# Altium footprint library Symbol.PcbLib: 206 footprints (part 4 of 15)
Each footprint in its own frame and in the unit in brackets; x right, y up, seen from the top. Pads: shape width x height; smd on the part's side, far side on the other; paste and mask are expansions set on the pad; w line width, h text height; cw(c..) or ccw(c..) is an arc to the next point about the centre after c.
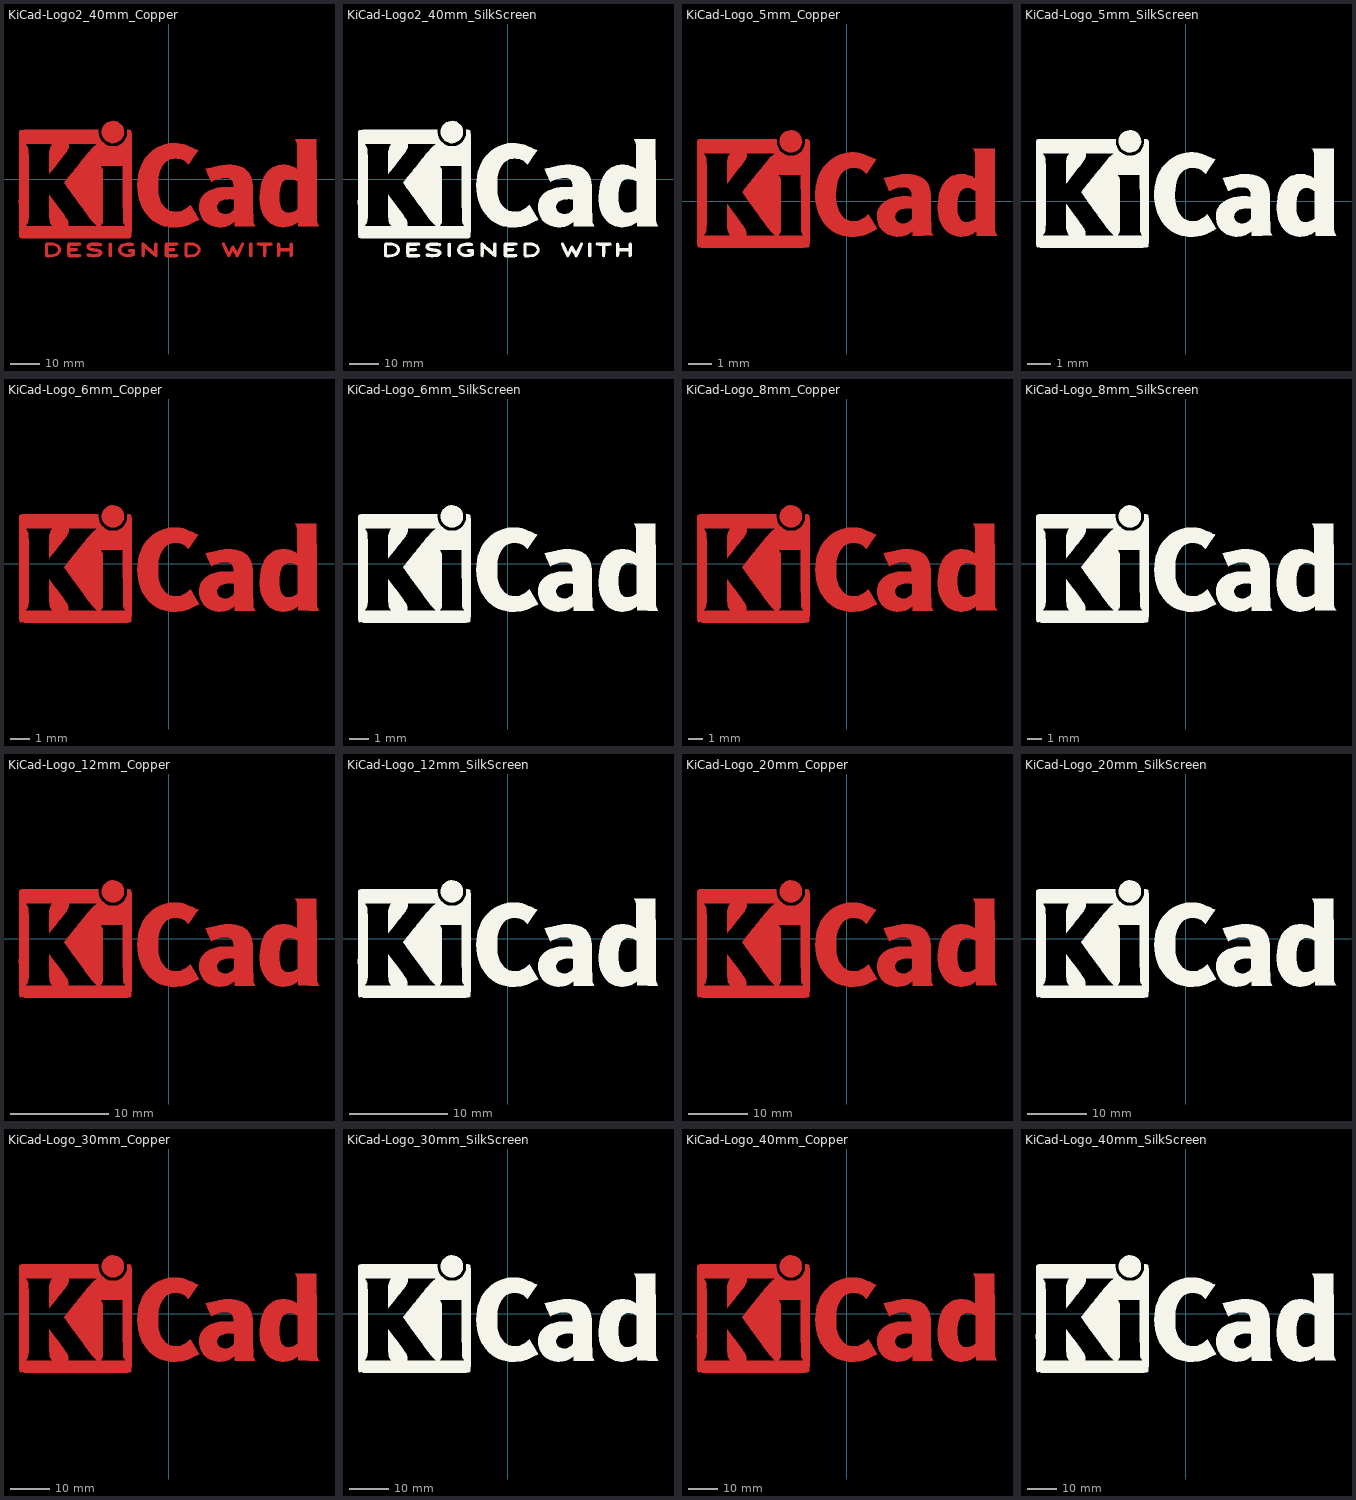
[diagram p3: the footprints below, top view; thin cyan lines are the x and y axes]

## KiCad-Logo2_40mm_Copper [mm]
F.Cu:
  region: 27.966,-21.545 28.124,-21.644 28.302,-21.788 28.302,-23.935 28.301,-24.563 28.299,-25.057 28.293,-25.436 28.284,-25.717 28.269,-25.917 28.249,-26.054 28.221,-26.146 28.184,-26.209 28.158,-26.24 27.948,-26.377 27.709,-26.371 27.5,-26.255 27.322,-26.11 27.322,-21.788 27.5,-21.644 27.672,-21.539 27.812,-21.5
  region: -19.521,-21.65 -19.477,-21.701 -19.443,-21.766 -19.417,-21.863 -19.398,-22.01 -19.385,-22.225 -19.377,-22.523 -19.372,-22.924 -19.371,-23.444 -19.37,-23.949 -19.371,-24.576 -19.373,-25.069 -19.378,-25.447 -19.387,-25.726 -19.401,-25.924 -19.421,-26.059 -19.449,-26.148 -19.486,-26.209 -19.521,-26.248 -19.741,-26.379 -19.976,-26.368 -20.186,-26.224 -20.235,-26.168 -20.272,-26.103 -20.301,-26.012 -20.321,-25.875 -20.335,-25.675 -20.344,-25.395 -20.348,-25.016 -20.35,-24.521 -20.35,-23.96 -20.35,-21.87 -20.165,-21.685 -19.937,-21.529 -19.716,-21.523
  region: -18.076,19.651 -17.392,19.413 -16.756,19.04 -16.187,18.531 -15.708,17.886 -15.493,17.48 -15.306,16.911 -15.216,16.254 -15.226,15.579 -15.337,14.968 -15.641,14.22 -16.081,13.572 -16.635,13.035 -17.282,12.624 -17.998,12.349 -18.761,12.225 -19.549,12.263 -19.938,12.345 -20.695,12.64 -21.367,13.089 -21.938,13.679 -22.393,14.397 -22.431,14.475 -22.564,14.769 -22.647,15.017 -22.693,15.278 -22.711,15.613 -22.714,15.977 -22.709,16.415 -22.686,16.732 -22.634,16.987 -22.541,17.243 -22.426,17.496 -21.998,18.213 -21.47,18.793 -20.864,19.237 -20.201,19.545 -19.501,19.716 -18.786,19.751
  region: 33.136,-21.5 33.662,-21.503 34.07,-21.508 34.376,-21.517 34.599,-21.53 34.753,-21.549 34.856,-21.574 34.924,-21.607 34.957,-21.631 35.128,-21.849 35.149,-22.074 35.043,-22.279 34.974,-22.361 34.9,-22.417 34.792,-22.452 34.622,-22.47 34.363,-22.478 33.986,-22.479 33.911,-22.479 32.937,-22.479 32.937,-24.288 32.936,-24.858 32.934,-25.297 32.927,-25.624 32.915,-25.857 32.896,-26.017 32.869,-26.123 32.833,-26.194 32.786,-26.248 32.566,-26.38 32.337,-26.37 32.129,-26.219 32.113,-26.2 32.064,-26.129 32.026,-26.046 31.998,-25.931 31.979,-25.764 31.967,-25.524 31.96,-25.192 31.958,-24.747 31.957,-24.24 31.957,-22.479 31.027,-22.479 30.628,-22.477 30.351,-22.466 30.17,-22.444 30.055,-22.407 29.981,-22.351 29.972,-22.342 29.862,-22.12 29.872,-21.869 29.998,-21.65 30.046,-21.608 30.109,-21.574 30.202,-21.548 30.343,-21.529 30.548,-21.516 30.834,-21.507 31.217,-21.502 31.714,-21.5 32.343,-21.5 32.477,-21.5
  region: 41.587,-21.536 41.797,-21.685 41.982,-21.87 41.982,-23.936 41.981,-24.549 41.979,-25.03 41.973,-25.397 41.964,-25.668 41.948,-25.861 41.926,-25.995 41.896,-26.088 41.856,-26.158 41.825,-26.2 41.62,-26.364 41.385,-26.382 41.169,-26.281 41.098,-26.222 41.051,-26.143 41.022,-26.016 41.007,-25.812 41.002,-25.503 41.002,-25.264 41.002,-24.364 37.685,-24.364 37.685,-25.183 37.682,-25.557 37.668,-25.814 37.639,-25.988 37.589,-26.112 37.529,-26.2 37.323,-26.364 37.09,-26.383 36.866,-26.267 36.805,-26.206 36.762,-26.125 36.734,-25.999 36.717,-25.803 36.708,-25.511 36.704,-25.099 36.704,-25.004 36.7,-24.227 36.699,-23.587 36.699,-23.069 36.703,-22.66 36.709,-22.345 36.72,-22.11 36.736,-21.942 36.758,-21.825 36.785,-21.746 36.819,-21.692 36.856,-21.65 37.069,-21.518 37.291,-21.536 37.5,-21.685 37.585,-21.78 37.639,-21.886 37.669,-22.037 37.683,-22.267 37.685,-22.613 37.685,-22.627 37.685,-23.384 41.002,-23.384 41.002,-22.592 41.005,-22.228 41.019,-21.982 41.048,-21.822 41.097,-21.716 41.153,-21.65 41.365,-21.518
  region: 6.799,-21.501 7.66,-21.53 8.392,-21.618 9.008,-21.771 9.519,-21.994 9.938,-22.291 10.277,-22.669 10.547,-23.133 10.552,-23.144 10.713,-23.559 10.771,-23.926 10.724,-24.296 10.573,-24.718 10.545,-24.782 10.35,-25.158 10.131,-25.448 9.848,-25.695 9.462,-25.94 9.44,-25.953 9.104,-26.114 8.724,-26.235 8.276,-26.319 7.735,-26.37 7.078,-26.393 6.845,-26.395 5.739,-26.399 5.583,-26.2 5.537,-26.135 5.5,-26.059 5.473,-25.953 5.454,-25.8 5.441,-25.581 5.436,-25.419 5.433,-25.278 5.428,-24.873 5.427,-24.347 5.427,-23.936 5.427,-21.87 5.612,-21.685 5.694,-21.61 5.783,-21.558 5.907,-21.526 6.094,-21.509 6.374,-21.502 6.775,-21.501 hole: 6.482,-22.479 6.482,-25.419 7.109,-25.419 7.476,-25.408 7.852,-25.38 8.161,-25.34 8.18,-25.337 8.729,-25.189 9.154,-24.968 9.47,-24.663 9.69,-24.263 9.728,-24.157 9.766,-23.992 9.75,-23.829 9.671,-23.612 9.623,-23.505 9.467,-23.222 9.28,-23.023 9.073,-22.885 8.659,-22.704 8.13,-22.574 7.513,-22.499 7.066,-22.482
  region: -40.87,-21.5 -40.606,-21.502 -39.834,-21.521 -39.187,-21.576 -38.643,-21.674 -38.181,-21.821 -37.779,-22.022 -37.413,-22.284 -37.283,-22.397 -37.067,-22.663 -36.871,-23.024 -36.721,-23.424 -36.639,-23.807 -36.63,-23.949 -36.684,-24.342 -36.827,-24.771 -37.035,-25.177 -37.281,-25.501 -37.321,-25.54 -37.66,-25.814 -38.031,-26.029 -38.455,-26.188 -38.954,-26.299 -39.55,-26.367 -40.264,-26.396 -40.59,-26.399 -41.006,-26.397 -41.298,-26.388 -41.494,-26.37 -41.622,-26.338 -41.709,-26.29 -41.755,-26.248 -41.799,-26.197 -41.834,-26.132 -41.86,-26.035 -41.879,-25.888 -41.892,-25.674 -41.9,-25.375 -41.904,-24.974 -41.906,-24.454 -41.906,-23.949 -41.908,-23.275 -41.908,-22.737 -41.901,-22.479 -41.897,-22.319 -41.869,-22.007 -41.814,-21.785 -41.726,-21.638 -41.595,-21.551 -41.414,-21.509 -41.175,-21.497 hole: -40.418,-22.479 -40.926,-22.479 -40.926,-25.419 -40.305,-25.418 -39.93,-25.408 -39.539,-25.38 -39.212,-25.341 -39.202,-25.34 -38.673,-25.212 -38.263,-25.013 -37.952,-24.73 -37.753,-24.423 -37.631,-24.083 -37.641,-23.764 -37.783,-23.422 -38.06,-23.067 -38.444,-22.805 -38.943,-22.63 -39.276,-22.568 -39.655,-22.524 -40.056,-22.492 -40.397,-22.479
  region: -8.68,-21.529 -8.523,-21.621 -8.317,-21.772 -8.052,-21.989 -7.718,-22.278 -7.303,-22.648 -6.797,-23.104 -6.218,-23.629 -5.012,-24.723 -4.974,-23.255 -4.961,-22.75 -4.948,-22.374 -4.932,-22.105 -4.911,-21.921 -4.882,-21.802 -4.842,-21.724 -4.788,-21.667 -4.759,-21.643 -4.528,-21.517 -4.309,-21.535 -4.135,-21.644 -3.957,-21.788 -3.935,-23.89 -3.929,-24.509 -3.926,-24.995 -3.927,-25.366 -3.933,-25.641 -3.945,-25.838 -3.965,-25.974 -3.993,-26.069 -4.031,-26.139 -4.072,-26.196 -4.162,-26.301 -4.252,-26.371 -4.354,-26.397 -4.48,-26.374 -4.643,-26.292 -4.856,-26.145 -5.13,-25.925 -5.478,-25.625 -5.914,-25.237 -6.407,-24.791 -8.178,-23.185 -8.215,-24.648 -8.229,-25.152 -8.242,-25.527 -8.258,-25.796 -8.279,-25.978 -8.308,-26.097 -8.349,-26.175 -8.403,-26.232 -8.431,-26.255 -8.678,-26.382 -8.911,-26.363 -9.114,-26.2 -9.161,-26.135 -9.197,-26.058 -9.224,-25.952 -9.244,-25.799 -9.257,-25.579 -9.265,-25.275 -9.269,-24.868 -9.27,-24.34 -9.271,-23.949 -9.27,-23.338 -9.268,-22.859 -9.262,-22.494 -9.253,-22.225 -9.237,-22.033 -9.215,-21.9 -9.184,-21.808 -9.144,-21.738 -9.114,-21.698 -9.039,-21.604 -8.969,-21.533 -8.892,-21.492 -8.8,-21.488
  region: -13.02,-21.536 -12.562,-21.613 -12.211,-21.733 -11.982,-21.89 -11.92,-21.979 -11.857,-22.188 -11.899,-22.376 -12.034,-22.555 -12.243,-22.639 -12.546,-22.632 -12.781,-22.587 -13.302,-22.5 -13.835,-22.492 -14.432,-22.562 -14.596,-22.592 -15.151,-22.748 -15.585,-22.981 -15.893,-23.286 -16.071,-23.659 -16.108,-23.852 -16.084,-24.243 -15.928,-24.59 -15.655,-24.884 -15.279,-25.12 -14.814,-25.29 -14.273,-25.389 -13.673,-25.408 -13.025,-25.342 -12.989,-25.336 -12.731,-25.288 -12.589,-25.241 -12.527,-25.173 -12.512,-25.058 -12.512,-24.997 -12.512,-24.741 -12.969,-24.741 -13.372,-24.713 -13.648,-24.625 -13.808,-24.468 -13.866,-24.236 -13.867,-24.206 -13.833,-24.007 -13.717,-23.865 -13.5,-23.772 -13.164,-23.717 -12.84,-23.697 -12.368,-23.685 -12.026,-23.703 -11.792,-23.768 -11.647,-23.898 -11.569,-24.113 -11.537,-24.429 -11.532,-24.845 -11.541,-25.308 -11.569,-25.624 -11.617,-25.792 -11.626,-25.805 -11.886,-26.016 -12.267,-26.183 -12.745,-26.302 -13.295,-26.37 -13.895,-26.384 -14.519,-26.34 -14.886,-26.286 -15.461,-26.123 -15.996,-25.857 -16.444,-25.511 -16.512,-25.442 -16.733,-25.151 -16.933,-24.791 -17.088,-24.414 -17.174,-24.071 -17.185,-23.94 -17.14,-23.665 -17.022,-23.323 -16.854,-22.964 -16.657,-22.635 -16.483,-22.416 -16.076,-22.09 -15.549,-21.83 -14.923,-21.643 -14.215,-21.534 -13.567,-21.507
  region: 1.538,-21.501 2.048,-21.507 2.438,-21.521 2.726,-21.547 2.926,-21.588 3.054,-21.647 3.126,-21.727 3.158,-21.833 3.166,-21.966 3.166,-21.982 3.159,-22.133 3.127,-22.25 3.053,-22.338 2.92,-22.4 2.71,-22.442 2.405,-22.469 1.989,-22.485 1.444,-22.494 1.277,-22.497 -0.339,-22.517 -0.362,-22.95 -0.384,-23.384 0.738,-23.384 1.177,-23.385 1.49,-23.392 1.703,-23.407 1.841,-23.434 1.93,-23.474 1.995,-23.532 2.112,-23.757 2.108,-23.999 1.985,-24.206 1.961,-24.227 1.874,-24.282 1.756,-24.32 1.579,-24.344 1.318,-24.358 0.946,-24.363 0.708,-24.364 -0.377,-24.364 -0.377,-25.419 1.27,-25.419 1.813,-25.42 2.226,-25.424 2.528,-25.432 2.739,-25.446 2.879,-25.468 2.968,-25.5 3.026,-25.541 3.041,-25.557 3.149,-25.767 3.157,-26.007 3.068,-26.215 2.998,-26.281 2.925,-26.318 2.812,-26.346 2.641,-26.368 2.395,-26.382 2.055,-26.392 1.603,-26.397 1.022,-26.399 0.891,-26.399 0.3,-26.398 -0.159,-26.396 -0.504,-26.391 -0.753,-26.381 -0.927,-26.365 -1.042,-26.341 -1.118,-26.308 -1.173,-26.265 -1.203,-26.234 -1.248,-26.179 -1.284,-26.11 -1.311,-26.011 -1.33,-25.863 -1.343,-25.648 -1.351,-25.348 -1.355,-24.946 -1.356,-24.423 -1.357,-23.983 -1.356,-23.366 -1.354,-22.882 -1.349,-22.512 -1.339,-22.239 -1.324,-22.043 -1.302,-21.907 -1.273,-21.813 -1.234,-21.743 -1.2,-21.698 -1.044,-21.5 0.893,-21.5
  region: -31.465,-21.5 -31.002,-21.503 -30.652,-21.508 -30.397,-21.519 -30.219,-21.535 -30.099,-21.559 -30.018,-21.591 -29.958,-21.634 -29.936,-21.653 -29.804,-21.861 -29.781,-22.099 -29.868,-22.31 -29.908,-22.353 -29.973,-22.395 -30.077,-22.427 -30.241,-22.451 -30.483,-22.468 -30.823,-22.481 -31.28,-22.491 -31.698,-22.497 -33.352,-22.517 -33.374,-22.95 -33.397,-23.384 -32.274,-23.384 -31.787,-23.388 -31.43,-23.406 -31.184,-23.444 -31.028,-23.511 -30.942,-23.613 -30.907,-23.759 -30.902,-23.894 -30.919,-24.06 -30.981,-24.182 -31.109,-24.267 -31.321,-24.322 -31.636,-24.351 -32.074,-24.363 -32.313,-24.364 -33.389,-24.364 -33.389,-25.419 -31.731,-25.419 -31.188,-25.42 -30.775,-25.423 -30.472,-25.431 -30.259,-25.444 -30.115,-25.466 -30.021,-25.497 -29.955,-25.539 -29.922,-25.57 -29.808,-25.749 -29.772,-25.909 -29.824,-26.104 -29.922,-26.248 -29.975,-26.293 -30.042,-26.329 -30.144,-26.355 -30.296,-26.374 -30.519,-26.386 -30.83,-26.394 -31.247,-26.397 -31.789,-26.399 -32.07,-26.399 -32.672,-26.398 -33.142,-26.396 -33.497,-26.39 -33.756,-26.38 -33.938,-26.364 -34.059,-26.341 -34.139,-26.31 -34.196,-26.269 -34.218,-26.248 -34.262,-26.197 -34.297,-26.132 -34.323,-26.034 -34.342,-25.887 -34.355,-25.672 -34.363,-25.372 -34.367,-24.97 -34.369,-24.448 -34.369,-23.962 -34.369,-23.34 -34.367,-22.851 -34.363,-22.477 -34.355,-22.201 -34.341,-22.006 -34.321,-21.873 -34.293,-21.785 -34.255,-21.725 -34.207,-21.675 -34.195,-21.663 -34.137,-21.614 -34.07,-21.575 -33.974,-21.547 -33.833,-21.526 -33.626,-21.513 -33.335,-21.505 -32.941,-21.501 -32.426,-21.5 -32.061,-21.5
  region: 25.001,-21.513 25.132,-21.559 25.137,-21.562 25.315,-21.697 25.413,-21.837 25.432,-21.902 25.431,-21.989 25.404,-22.113 25.345,-22.289 25.249,-22.532 25.108,-22.859 24.918,-23.284 24.673,-23.823 24.538,-24.118 24.293,-24.644 24.064,-25.127 23.859,-25.551 23.686,-25.897 23.554,-26.148 23.472,-26.285 23.456,-26.304 23.249,-26.388 23.015,-26.377 22.827,-26.275 22.82,-26.267 22.745,-26.154 22.62,-25.933 22.459,-25.634 22.279,-25.285 22.214,-25.156 21.726,-24.177 21.193,-25.241 21.003,-25.608 20.827,-25.927 20.678,-26.172 20.573,-26.32 20.537,-26.351 20.258,-26.394 20.029,-26.304 19.961,-26.209 19.844,-25.997 19.687,-25.689 19.5,-25.307 19.293,-24.87 19.074,-24.4 18.853,-23.918 18.64,-23.444 18.445,-23 18.276,-22.606 18.144,-22.283 18.059,-22.053 18.028,-21.935 18.029,-21.931 18.102,-21.782 18.25,-21.631 18.258,-21.624 18.44,-21.522 18.607,-21.523 18.67,-21.542 18.747,-21.584 18.828,-21.666 18.924,-21.806 19.044,-22.02 19.198,-22.325 19.396,-22.739 19.574,-23.121 19.779,-23.564 19.963,-23.962 20.116,-24.295 20.229,-24.541 20.291,-24.681 20.3,-24.703 20.341,-24.667 20.436,-24.518 20.571,-24.276 20.734,-23.965 20.799,-23.836 21.019,-23.402 21.189,-23.086 21.322,-22.869 21.433,-22.734 21.535,-22.661 21.643,-22.633 21.713,-22.63 21.837,-22.641 21.945,-22.686 22.053,-22.785 22.175,-22.955 22.325,-23.215 22.518,-23.585 22.625,-23.795 22.798,-24.13 22.948,-24.408 23.064,-24.605 23.131,-24.698 23.14,-24.702 23.183,-24.629 23.279,-24.439 23.419,-24.151 23.594,-23.787 23.792,-23.365 23.89,-23.155 24.144,-22.615 24.349,-22.199 24.515,-21.893 24.652,-21.686 24.772,-21.562 24.885,-21.509
  region: -24.648,-21.508 -24.148,-21.543 -23.684,-21.598 -23.281,-21.67 -22.967,-21.757 -22.77,-21.858 -22.739,-21.888 -22.634,-22.119 -22.666,-22.356 -22.83,-22.559 -22.837,-22.565 -22.934,-22.627 -23.034,-22.66 -23.174,-22.664 -23.39,-22.64 -23.716,-22.588 -23.742,-22.584 -24.227,-22.524 -24.751,-22.495 -25.277,-22.495 -25.767,-22.522 -26.186,-22.577 -26.495,-22.658 -26.515,-22.666 -26.74,-22.792 -26.819,-22.919 -26.757,-23.044 -26.56,-23.164 -26.232,-23.274 -25.778,-23.371 -25.475,-23.418 -24.847,-23.508 -24.346,-23.59 -23.954,-23.672 -23.647,-23.76 -23.405,-23.862 -23.207,-23.985 -23.03,-24.135 -22.889,-24.283 -22.721,-24.489 -22.638,-24.666 -22.612,-24.884 -22.611,-24.964 -22.631,-25.229 -22.708,-25.427 -22.843,-25.602 -23.116,-25.869 -23.42,-26.074 -23.779,-26.221 -24.214,-26.318 -24.748,-26.371 -25.405,-26.388 -25.513,-26.388 -25.951,-26.378 -26.385,-26.358 -26.768,-26.329 -27.053,-26.294 -27.076,-26.29 -27.359,-26.223 -27.599,-26.138 -27.735,-26.06 -27.862,-25.856 -27.871,-25.618 -27.762,-25.406 -27.737,-25.382 -27.636,-25.311 -27.51,-25.28 -27.315,-25.285 -27.078,-25.312 -26.813,-25.337 -26.441,-25.357 -26.008,-25.372 -25.556,-25.379 -25.438,-25.38 -24.985,-25.378 -24.653,-25.369 -24.414,-25.35 -24.237,-25.318 -24.095,-25.27 -24.01,-25.23 -23.822,-25.119 -23.702,-25.019 -23.685,-24.99 -23.722,-24.873 -23.897,-24.759 -24.199,-24.654 -24.615,-24.563 -24.738,-24.542 -25.378,-24.442 -25.889,-24.358 -26.291,-24.284 -26.602,-24.215 -26.844,-24.143 -27.035,-24.064 -27.196,-23.971 -27.345,-23.858 -27.503,-23.718 -27.557,-23.669 -27.743,-23.487 -27.842,-23.342 -27.881,-23.176 -27.887,-22.968 -27.818,-22.559 -27.613,-22.211 -27.271,-21.926 -26.795,-21.705 -26.455,-21.606 -26.086,-21.542 -25.644,-21.505 -25.155,-21.495
  region: 2.917,12.197 3.899,12.09 4.85,11.898 5.809,11.61 6.815,11.218 7.907,10.711 8.103,10.613 8.554,10.39 8.98,10.19 9.338,10.031 9.586,9.933 9.624,9.92 9.989,9.811 8.354,7.432 7.954,6.85 7.588,6.319 7.27,5.856 7.01,5.479 6.822,5.207 6.718,5.057 6.701,5.033 6.632,5.083 6.463,5.232 6.223,5.454 6.091,5.58 5.343,6.175 4.502,6.627 3.778,6.875 3.343,6.953 2.799,7 2.209,7.016 1.638,7 1.148,6.951 0.953,6.914 0.074,6.611 -0.719,6.149 -1.424,5.528 -2.041,4.75 -2.569,3.815 -3.008,2.723 -3.356,1.477 -3.564,0.41 -3.618,-0.061 -3.655,-0.67 -3.675,-1.372 -3.678,-2.125 -3.666,-2.883 -3.637,-3.605 -3.593,-4.245 -3.534,-4.76 -3.521,-4.839 -3.239,-6.12 -2.855,-7.253 -2.366,-8.244 -1.771,-9.098 -1.348,-9.559 -0.588,-10.186 0.245,-10.651 1.138,-10.951 2.076,-11.083 3.045,-11.046 4.031,-10.837 4.614,-10.632 5.422,-10.221 6.253,-9.633 6.719,-9.235 6.981,-9.004 7.187,-8.835 7.304,-8.754 7.318,-8.751 7.37,-8.835 7.506,-9.054 7.713,-9.392 7.979,-9.829 8.295,-10.346 8.647,-10.924 8.843,-11.246 10.342,-13.707 8.471,-14.632 7.795,-14.964 7.247,-15.226 6.794,-15.43 6.402,-15.591 6.039,-15.72 5.67,-15.831 5.262,-15.937 4.871,-16.03 4.523,-16.102 4.159,-16.156 3.744,-16.196 3.239,-16.224 2.609,-16.244 2.185,-16.252 1.579,-16.258 0.999,-16.255 0.481,-16.245 0.066,-16.227 -0.209,-16.202 -0.226,-16.2 -1.656,-15.891 -2.999,-15.421 -4.254,-14.793 -5.421,-14.005 -6.499,-13.058 -7.489,-11.953 -8.206,-10.97 -8.969,-9.684 -9.585,-8.326 -10.059,-6.885 -10.392,-5.35 -10.588,-3.711 -10.65,-2.046 -10.599,-0.435 -10.439,1.051 -10.166,2.437 -9.774,3.749 -9.257,5.012 -9.196,5.142 -8.516,6.365 -7.682,7.529 -6.716,8.609 -5.643,9.582 -4.485,10.424 -3.407,11.041 -2.317,11.524 -1.225,11.875 -0.089,12.101 1.135,12.213 1.866,12.23
  region: 118 vertices and 1 holes, not listed, extent 30.875,-16.282 50.9,13.549
  region: 125 vertices and 1 holes, not listed, extent 10.297,-16.263 29.224,4.904
  region: 197 vertices and 2 holes, not listed, extent -50.801,-20.027 -12.573,16.752

## KiCad-Logo2_40mm_SilkScreen [mm]
F.SilkS:
  drawing of 17 lines, arcs and shapes, not listed

## KiCad-Logo_5mm_Copper [mm]
F.Cu:
  region: -2.273,2.973 -2.177,2.949 -2.09,2.906 -2.015,2.847 -1.954,2.772 -1.909,2.683 -1.883,2.586 -1.877,2.489 -1.892,2.395 -1.926,2.307 -1.977,2.228 -2.042,2.16 -2.121,2.106 -2.212,2.068 -2.263,2.056 -2.308,2.048 -2.342,2.045 -2.375,2.047 -2.415,2.054 -2.449,2.061 -2.542,2.092 -2.626,2.143 -2.698,2.213 -2.756,2.298 -2.77,2.326 -2.787,2.362 -2.797,2.392 -2.802,2.425 -2.805,2.466 -2.805,2.512 -2.801,2.596 -2.787,2.665 -2.762,2.726 -2.723,2.784 -2.684,2.829 -2.612,2.895 -2.537,2.94 -2.455,2.967 -2.377,2.977
  region: 0.328,2.051 0.489,2.03 0.653,1.99 0.822,1.93 1,1.851 1.011,1.845 1.069,1.817 1.121,1.793 1.162,1.775 1.19,1.764 1.2,1.761 1.219,1.756 1.224,1.752 1.218,1.741 1.202,1.715 1.177,1.676 1.145,1.626 1.107,1.569 1.066,1.507 1.023,1.442 0.98,1.379 0.939,1.319 0.902,1.265 0.871,1.22 0.847,1.186 0.832,1.167 0.83,1.165 0.82,1.17 0.798,1.187 0.767,1.214 0.752,1.228 0.655,1.303 0.548,1.359 0.433,1.394 0.31,1.408 0.241,1.407 0.119,1.39 0.01,1.354 -0.087,1.299 -0.174,1.225 -0.249,1.131 -0.314,1.018 -0.351,0.931 -0.395,0.796 -0.428,0.648 -0.448,0.493 -0.458,0.333 -0.456,0.173 -0.443,0.016 -0.419,-0.133 -0.384,-0.271 -0.338,-0.395 -0.322,-0.429 -0.253,-0.543 -0.173,-0.64 -0.081,-0.718 0.02,-0.777 0.13,-0.816 0.247,-0.834 0.289,-0.835 0.41,-0.824 0.531,-0.791 0.649,-0.737 0.762,-0.663 0.854,-0.585 0.9,-0.54 1.081,-0.837 1.127,-0.911 1.168,-0.98 1.204,-1.039 1.233,-1.088 1.254,-1.124 1.265,-1.144 1.266,-1.147 1.258,-1.157 1.233,-1.174 1.193,-1.197 1.142,-1.225 1.084,-1.255 1.021,-1.287 0.958,-1.318 0.896,-1.346 0.839,-1.371 0.791,-1.391 0.768,-1.399 0.634,-1.437 0.496,-1.462 0.349,-1.475 0.222,-1.477 0.154,-1.476 0.088,-1.474 0.031,-1.471 -0.013,-1.468 -0.027,-1.466 -0.166,-1.438 -0.307,-1.392 -0.445,-1.334 -0.572,-1.264 -0.649,-1.211 -0.777,-1.103 -0.895,-0.977 -1.002,-0.835 -1.095,-0.681 -1.173,-0.518 -1.217,-0.401 -1.267,-0.217 -1.301,-0.023 -1.318,0.179 -1.318,0.382 -1.301,0.584 -1.268,0.781 -1.217,0.967 -1.214,0.978 -1.151,1.14 -1.074,1.288 -0.981,1.426 -0.868,1.558 -0.825,1.604 -0.688,1.728 -0.549,1.83 -0.403,1.912 -0.249,1.975 -0.084,2.02 0.011,2.038 0.17,2.054
  region: 6.187,0.528 6.187,0.293 6.187,0.08 6.187,-0.112 6.187,-0.285 6.187,-0.441 6.188,-0.579 6.188,-0.701 6.189,-0.808 6.19,-0.901 6.192,-0.982 6.194,-1.051 6.196,-1.11 6.198,-1.159 6.202,-1.2 6.205,-1.234 6.21,-1.262 6.214,-1.285 6.22,-1.304 6.226,-1.321 6.233,-1.335 6.24,-1.349 6.249,-1.364 6.254,-1.373 6.288,-1.434 5.43,-1.434 5.43,-1.338 5.429,-1.294 5.427,-1.261 5.424,-1.243 5.423,-1.242 5.412,-1.249 5.389,-1.267 5.366,-1.286 5.312,-1.327 5.242,-1.368 5.165,-1.405 5.088,-1.435 5.057,-1.445 4.989,-1.46 4.906,-1.47 4.816,-1.475 4.728,-1.474 4.649,-1.469 4.612,-1.463 4.473,-1.425 4.346,-1.367 4.23,-1.29 4.127,-1.195 4.036,-1.081 3.969,-0.97 3.914,-0.854 3.872,-0.734 3.842,-0.608 3.823,-0.472 3.815,-0.32 3.814,-0.243 3.816,-0.186 3.822,-0.03 3.844,0.166 3.88,0.345 3.93,0.506 3.994,0.65 4.071,0.777 4.163,0.886 4.268,0.977 4.314,1.008 4.415,1.064 4.518,1.104 4.628,1.128 4.749,1.138 4.842,1.137 4.971,1.126 5.084,1.104 5.183,1.07 5.271,1.024 5.32,0.99 5.349,0.968 5.371,0.953 5.379,0.948 5.381,0.959 5.382,0.99 5.383,1.037 5.384,1.1 5.384,1.173 5.384,1.256 5.384,1.344 5.384,1.436 5.383,1.528 5.382,1.618 5.381,1.704 5.38,1.781 5.379,1.848 5.377,1.902 5.375,1.94 5.375,1.947 5.367,2.018 5.356,2.073 5.338,2.12 5.312,2.166 5.305,2.176 5.281,2.213 6.186,2.213 hole: 5.07,0.553 4.988,0.549 4.915,0.53 4.883,0.515 4.826,0.472 4.777,0.415 4.735,0.342 4.701,0.252 4.672,0.141 4.671,0.135 4.66,0.073 4.653,-0.005 4.648,-0.093 4.645,-0.186 4.645,-0.279 4.648,-0.367 4.654,-0.444 4.662,-0.505 4.665,-0.517 4.697,-0.625 4.738,-0.712 4.79,-0.779 4.853,-0.826 4.926,-0.853 5.011,-0.862 5.107,-0.851 5.17,-0.835 5.219,-0.817 5.274,-0.791 5.314,-0.767 5.385,-0.721 5.385,0.429 5.317,0.473 5.239,0.514 5.155,0.541
  region: 139 vertices and 1 holes, not listed, extent 1.272,-1.475 3.612,1.14
  region: 172 vertices and 2 holes, not listed, extent -6.277,-1.942 -1.558,2.608

## KiCad-Logo_5mm_SilkScreen [mm]
F.SilkS:
  drawing of 5 lines, arcs and shapes, not listed

## KiCad-Logo_6mm_Copper [mm]
F.Cu:
  region: -2.726,2.964 -2.623,2.928 -2.527,2.871 -2.441,2.795 -2.369,2.697 -2.336,2.636 -2.308,2.55 -2.295,2.451 -2.296,2.35 -2.313,2.257 -2.359,2.145 -2.425,2.047 -2.509,1.966 -2.606,1.904 -2.714,1.862 -2.829,1.844 -2.948,1.849 -3.007,1.862 -3.121,1.906 -3.222,1.974 -3.309,2.063 -3.377,2.171 -3.383,2.183 -3.403,2.227 -3.415,2.265 -3.422,2.304 -3.425,2.355 -3.426,2.41 -3.425,2.476 -3.421,2.523 -3.413,2.562 -3.399,2.6 -3.382,2.639 -3.318,2.747 -3.238,2.834 -3.147,2.901 -3.047,2.948 -2.941,2.973 -2.833,2.979
  region: 0.44,1.84 0.588,1.823 0.731,1.794 0.876,1.751 1.028,1.692 1.192,1.615 1.222,1.6 1.29,1.567 1.354,1.537 1.408,1.513 1.446,1.498 1.451,1.496 1.506,1.48 1.26,1.121 1.2,1.033 1.144,0.953 1.096,0.883 1.057,0.826 1.029,0.785 1.013,0.763 1.011,0.759 1,0.767 0.975,0.789 0.939,0.823 0.919,0.841 0.806,0.931 0.679,0.999 0.57,1.037 0.504,1.049 0.422,1.056 0.333,1.058 0.247,1.056 0.173,1.048 0.144,1.043 0.011,0.997 -0.108,0.927 -0.215,0.834 -0.308,0.716 -0.387,0.575 -0.454,0.411 -0.506,0.223 -0.537,0.062 -0.546,-0.009 -0.551,-0.101 -0.554,-0.207 -0.555,-0.32 -0.553,-0.435 -0.548,-0.544 -0.542,-0.64 -0.533,-0.718 -0.531,-0.73 -0.489,-0.923 -0.431,-1.094 -0.357,-1.243 -0.267,-1.372 -0.203,-1.442 -0.089,-1.536 0.037,-1.606 0.172,-1.651 0.313,-1.671 0.459,-1.666 0.608,-1.634 0.696,-1.603 0.818,-1.542 0.943,-1.453 1.013,-1.393 1.053,-1.358 1.084,-1.332 1.101,-1.32 1.104,-1.32 1.112,-1.332 1.132,-1.366 1.163,-1.416 1.203,-1.482 1.251,-1.56 1.304,-1.647 1.334,-1.696 1.56,-2.067 1.278,-2.207 1.176,-2.257 1.093,-2.296 1.025,-2.327 0.966,-2.351 0.911,-2.371 0.855,-2.388 0.794,-2.403 0.735,-2.417 0.682,-2.428 0.627,-2.437 0.565,-2.443 0.488,-2.447 0.394,-2.45 0.33,-2.451 0.238,-2.452 0.151,-2.451 0.073,-2.45 0.01,-2.447 -0.032,-2.444 -0.034,-2.443 -0.25,-2.396 -0.452,-2.326 -0.642,-2.231 -0.818,-2.112 -0.98,-1.969 -1.129,-1.803 -1.238,-1.654 -1.353,-1.461 -1.446,-1.256 -1.517,-1.038 -1.567,-0.807 -1.597,-0.56 -1.606,-0.309 -1.598,-0.066 -1.574,0.158 -1.533,0.368 -1.474,0.565 -1.396,0.756 -1.387,0.776 -1.284,0.96 -1.159,1.135 -1.013,1.298 -0.851,1.445 -0.676,1.572 -0.514,1.665 -0.349,1.738 -0.185,1.791 -0.013,1.825 0.171,1.842 0.281,1.844
  region: 119 vertices and 1 holes, not listed, extent 4.656,-2.455 7.676,2.043
  region: 125 vertices and 1 holes, not listed, extent 1.553,-2.453 4.407,0.74
  region: 197 vertices and 2 holes, not listed, extent -7.661,-3.02 -1.896,2.526

## KiCad-Logo_6mm_SilkScreen [mm]
F.SilkS:
  drawing of 5 lines, arcs and shapes, not listed

## KiCad-Logo_8mm_Copper [mm]
F.Cu:
  region: -3.602,3.916 -3.466,3.869 -3.339,3.794 -3.226,3.693 -3.13,3.564 -3.087,3.483 -3.05,3.37 -3.032,3.239 -3.034,3.105 -3.056,2.983 -3.117,2.834 -3.205,2.705 -3.315,2.598 -3.444,2.516 -3.587,2.461 -3.739,2.436 -3.896,2.444 -3.973,2.46 -4.124,2.519 -4.258,2.608 -4.372,2.726 -4.463,2.869 -4.47,2.885 -4.497,2.943 -4.513,2.993 -4.522,3.045 -4.526,3.111 -4.527,3.184 -4.526,3.271 -4.521,3.334 -4.511,3.385 -4.492,3.436 -4.469,3.487 -4.384,3.63 -4.279,3.745 -4.158,3.834 -4.026,3.895 -3.886,3.929 -3.744,3.936
  region: 0.581,2.431 0.777,2.409 0.967,2.371 1.158,2.314 1.358,2.236 1.576,2.135 1.615,2.115 1.705,2.071 1.79,2.031 1.861,1.999 1.91,1.979 1.918,1.977 1.991,1.955 1.665,1.481 1.585,1.365 1.512,1.259 1.449,1.167 1.397,1.092 1.359,1.038 1.339,1.008 1.335,1.003 1.322,1.013 1.288,1.043 1.24,1.087 1.214,1.112 1.065,1.231 0.897,1.321 0.753,1.37 0.666,1.386 0.558,1.395 0.44,1.398 0.326,1.395 0.229,1.385 0.19,1.378 0.015,1.317 -0.143,1.225 -0.284,1.102 -0.407,0.947 -0.512,0.76 -0.599,0.543 -0.669,0.294 -0.71,0.082 -0.721,-0.012 -0.728,-0.134 -0.732,-0.273 -0.733,-0.423 -0.73,-0.575 -0.725,-0.718 -0.716,-0.846 -0.704,-0.949 -0.702,-0.964 -0.646,-1.22 -0.569,-1.445 -0.472,-1.643 -0.353,-1.813 -0.269,-1.905 -0.117,-2.03 0.049,-2.123 0.227,-2.182 0.414,-2.209 0.607,-2.201 0.803,-2.16 0.92,-2.119 1.08,-2.037 1.246,-1.92 1.339,-1.84 1.391,-1.794 1.432,-1.761 1.455,-1.745 1.458,-1.744 1.469,-1.761 1.496,-1.804 1.537,-1.872 1.59,-1.959 1.653,-2.062 1.723,-2.177 1.762,-2.241 2.061,-2.732 1.688,-2.916 1.553,-2.982 1.444,-3.034 1.354,-3.075 1.276,-3.107 1.203,-3.133 1.13,-3.155 1.049,-3.176 0.971,-3.195 0.901,-3.209 0.829,-3.22 0.746,-3.228 0.645,-3.233 0.52,-3.237 0.435,-3.239 0.315,-3.24 0.199,-3.239 0.096,-3.237 0.013,-3.234 -0.042,-3.229 -0.045,-3.228 -0.33,-3.167 -0.598,-3.073 -0.848,-2.948 -1.08,-2.791 -1.295,-2.602 -1.492,-2.382 -1.635,-2.186 -1.787,-1.93 -1.91,-1.659 -2.005,-1.372 -2.071,-1.066 -2.11,-0.74 -2.122,-0.408 -2.112,-0.087 -2.08,0.209 -2.026,0.486 -1.948,0.747 -1.845,0.999 -1.833,1.025 -1.697,1.268 -1.531,1.5 -1.338,1.716 -1.125,1.91 -0.894,2.077 -0.679,2.2 -0.462,2.297 -0.244,2.366 -0.018,2.412 0.226,2.434 0.372,2.437
  region: 118 vertices and 1 holes, not listed, extent 6.153,-3.245 10.144,2.7
  region: 125 vertices and 1 holes, not listed, extent 2.052,-3.241 5.824,0.977
  region: 197 vertices and 2 holes, not listed, extent -10.124,-3.991 -2.506,3.338

## KiCad-Logo_8mm_SilkScreen [mm]
F.SilkS:
  drawing of 5 lines, arcs and shapes, not listed

## KiCad-Logo_12mm_Copper [mm]
F.Cu:
  region: -5.423,5.895 -5.218,5.824 -5.027,5.712 -4.856,5.559 -4.712,5.366 -4.648,5.244 -4.592,5.073 -4.565,4.876 -4.568,4.674 -4.601,4.49 -4.692,4.266 -4.824,4.072 -4.991,3.911 -5.185,3.787 -5.399,3.705 -5.628,3.667 -5.865,3.679 -5.981,3.704 -6.208,3.792 -6.41,3.927 -6.582,4.104 -6.718,4.319 -6.729,4.343 -6.769,4.431 -6.794,4.505 -6.808,4.583 -6.813,4.684 -6.814,4.793 -6.813,4.925 -6.806,5.019 -6.79,5.096 -6.762,5.173 -6.728,5.249 -6.599,5.464 -6.441,5.638 -6.259,5.771 -6.06,5.863 -5.85,5.915 -5.636,5.925
  region: 0.875,3.659 1.17,3.627 1.455,3.569 1.743,3.483 2.045,3.365 2.372,3.213 2.431,3.184 2.566,3.117 2.694,3.057 2.801,3.009 2.876,2.98 2.887,2.976 2.997,2.943 2.506,2.23 2.386,2.055 2.277,1.896 2.181,1.757 2.103,1.644 2.047,1.562 2.015,1.517 2.01,1.51 1.99,1.525 1.939,1.57 1.867,1.636 1.827,1.674 1.603,1.852 1.351,1.988 1.133,2.062 1.003,2.086 0.84,2.1 0.663,2.105 0.491,2.1 0.345,2.085 0.286,2.074 0.022,1.983 -0.216,1.845 -0.427,1.659 -0.612,1.425 -0.771,1.144 -0.902,0.817 -1.007,0.443 -1.069,0.123 -1.085,-0.018 -1.096,-0.201 -1.102,-0.412 -1.103,-0.637 -1.1,-0.865 -1.091,-1.081 -1.078,-1.273 -1.06,-1.428 -1.056,-1.452 -0.972,-1.836 -0.857,-2.176 -0.71,-2.473 -0.531,-2.729 -0.404,-2.868 -0.176,-3.056 0.073,-3.195 0.341,-3.285 0.623,-3.325 0.913,-3.314 1.209,-3.251 1.384,-3.19 1.626,-3.066 1.876,-2.89 2.016,-2.77 2.094,-2.701 2.156,-2.651 2.191,-2.626 2.195,-2.625 2.211,-2.65 2.252,-2.716 2.314,-2.818 2.394,-2.949 2.488,-3.104 2.594,-3.277 2.653,-3.374 3.103,-4.112 2.541,-4.39 2.338,-4.489 2.174,-4.568 2.038,-4.629 1.921,-4.677 1.812,-4.716 1.701,-4.749 1.579,-4.781 1.461,-4.809 1.357,-4.831 1.248,-4.847 1.123,-4.859 0.972,-4.867 0.783,-4.873 0.655,-4.876 0.474,-4.877 0.3,-4.877 0.144,-4.873 0.02,-4.868 -0.063,-4.861 -0.068,-4.86 -0.497,-4.767 -0.9,-4.626 -1.276,-4.438 -1.626,-4.201 -1.95,-3.917 -2.247,-3.586 -2.462,-3.291 -2.691,-2.905 -2.876,-2.498 -3.018,-2.066 -3.118,-1.605 -3.176,-1.113 -3.195,-0.614 -3.18,-0.131 -3.132,0.315 -3.05,0.731 -2.932,1.125 -2.777,1.503 -2.759,1.543 -2.555,1.91 -2.305,2.259 -2.015,2.583 -1.693,2.875 -1.346,3.127 -1.022,3.312 -0.695,3.457 -0.368,3.562 -0.027,3.63 0.34,3.664 0.56,3.669
  region: 119 vertices and 1 holes, not listed, extent 9.262,-4.885 15.27,4.065
  region: 125 vertices and 1 holes, not listed, extent 3.089,-4.879 8.767,1.471
  region: 197 vertices and 2 holes, not listed, extent -15.24,-6.008 -3.772,5.026

## KiCad-Logo_12mm_SilkScreen [mm]
F.SilkS:
  drawing of 5 lines, arcs and shapes, not listed

## KiCad-Logo_20mm_Copper [mm]
F.Cu:
  region: -9.038,9.825 -8.696,9.707 -8.378,9.52 -8.094,9.266 -7.854,8.943 -7.746,8.74 -7.653,8.455 -7.608,8.127 -7.613,7.79 -7.668,7.484 -7.82,7.11 -8.04,6.786 -8.318,6.518 -8.641,6.312 -8.999,6.175 -9.381,6.112 -9.775,6.132 -9.969,6.173 -10.347,6.32 -10.683,6.545 -10.969,6.84 -11.196,7.198 -11.216,7.238 -11.282,7.385 -11.324,7.508 -11.346,7.639 -11.356,7.807 -11.357,7.989 -11.355,8.208 -11.343,8.366 -11.317,8.494 -11.271,8.622 -11.213,8.748 -10.999,9.106 -10.735,9.397 -10.432,9.619 -10.101,9.772 -9.751,9.858 -9.393,9.876
  region: 1.459,6.099 1.95,6.045 2.425,5.949 2.905,5.805 3.408,5.609 3.953,5.355 4.052,5.306 4.277,5.195 4.49,5.095 4.669,5.016 4.793,4.966 4.812,4.96 4.995,4.905 4.177,3.716 3.977,3.425 3.794,3.16 3.635,2.928 3.505,2.74 3.411,2.604 3.359,2.529 3.35,2.517 3.316,2.541 3.231,2.616 3.112,2.727 3.046,2.79 2.671,3.087 2.251,3.314 1.889,3.437 1.672,3.476 1.399,3.5 1.105,3.508 0.819,3.5 0.574,3.476 0.477,3.457 0.037,3.306 -0.359,3.075 -0.712,2.764 -1.02,2.375 -1.284,1.907 -1.504,1.362 -1.678,0.738 -1.782,0.205 -1.809,-0.031 -1.827,-0.335 -1.837,-0.686 -1.839,-1.062 -1.833,-1.442 -1.818,-1.802 -1.796,-2.122 -1.767,-2.38 -1.761,-2.42 -1.62,-3.06 -1.428,-3.626 -1.183,-4.122 -0.885,-4.549 -0.674,-4.78 -0.294,-5.093 0.122,-5.325 0.569,-5.475 1.038,-5.542 1.522,-5.523 2.016,-5.418 2.307,-5.316 2.711,-5.111 3.127,-4.816 3.36,-4.617 3.491,-4.502 3.593,-4.418 3.652,-4.377 3.659,-4.376 3.685,-4.417 3.753,-4.527 3.856,-4.696 3.99,-4.915 4.147,-5.173 4.324,-5.462 4.422,-5.623 5.171,-6.854 4.236,-7.316 3.897,-7.482 3.623,-7.613 3.397,-7.715 3.201,-7.795 3.019,-7.86 2.835,-7.916 2.631,-7.968 2.435,-8.015 2.261,-8.051 2.08,-8.078 1.872,-8.098 1.62,-8.112 1.305,-8.122 1.092,-8.126 0.79,-8.129 0.499,-8.128 0.241,-8.122 0.033,-8.113 -0.105,-8.101 -0.113,-8.1 -0.828,-7.945 -1.499,-7.711 -2.127,-7.396 -2.71,-7.002 -3.25,-6.529 -3.744,-5.976 -4.103,-5.485 -4.484,-4.842 -4.793,-4.163 -5.029,-3.443 -5.196,-2.675 -5.294,-1.855 -5.325,-1.023 -5.3,-0.218 -5.22,0.525 -5.083,1.218 -4.887,1.874 -4.629,2.506 -4.598,2.571 -4.258,3.183 -3.841,3.764 -3.358,4.305 -2.821,4.791 -2.243,5.212 -1.703,5.52 -1.158,5.762 -0.613,5.937 -0.044,6.051 0.567,6.107 0.933,6.115
  region: 118 vertices and 1 holes, not listed, extent 15.437,-8.141 25.45,6.774
  region: 125 vertices and 1 holes, not listed, extent 5.148,-8.131 14.612,2.452
  region: 197 vertices and 2 holes, not listed, extent -25.4,-10.013 -6.287,8.376

## KiCad-Logo_20mm_SilkScreen [mm]
F.SilkS:
  drawing of 5 lines, arcs and shapes, not listed

## KiCad-Logo_30mm_Copper [mm]
F.Cu:
  region: -13.557,14.738 -13.044,14.56 -12.567,14.28 -12.141,13.898 -11.781,13.415 -11.619,13.11 -11.48,12.683 -11.412,12.191 -11.419,11.684 -11.503,11.226 -11.73,10.665 -12.061,10.179 -12.477,9.777 -12.961,9.468 -13.499,9.262 -14.071,9.168 -14.662,9.197 -14.953,9.259 -15.521,9.48 -16.025,9.817 -16.454,10.26 -16.795,10.798 -16.823,10.856 -16.923,11.077 -16.986,11.263 -17.02,11.459 -17.033,11.71 -17.036,11.983 -17.032,12.311 -17.015,12.549 -16.976,12.741 -16.906,12.933 -16.82,13.122 -16.498,13.66 -16.103,14.095 -15.648,14.428 -15.151,14.659 -14.626,14.787 -14.09,14.814
  region: 2.188,9.148 2.924,9.067 3.638,8.923 4.357,8.708 5.111,8.414 5.93,8.033 6.078,7.959 6.416,7.793 6.735,7.643 7.003,7.524 7.189,7.45 7.218,7.44 7.492,7.358 6.265,5.574 5.966,5.138 5.691,4.739 5.452,4.392 5.257,4.11 5.116,3.905 5.038,3.793 5.026,3.775 4.974,3.812 4.847,3.924 4.668,4.091 4.569,4.185 4.007,4.631 3.377,4.97 2.834,5.156 2.508,5.215 2.099,5.25 1.657,5.262 1.228,5.25 0.861,5.213 0.715,5.185 0.055,4.958 -0.539,4.612 -1.068,4.146 -1.53,3.563 -1.927,2.861 -2.256,2.043 -2.517,1.108 -2.673,0.307 -2.713,-0.046 -2.741,-0.503 -2.756,-1.029 -2.759,-1.594 -2.749,-2.163 -2.728,-2.703 -2.695,-3.184 -2.65,-3.57 -2.641,-3.629 -2.429,-4.59 -2.141,-5.439 -1.775,-6.183 -1.328,-6.823 -1.011,-7.169 -0.441,-7.64 0.184,-7.988 0.853,-8.213 1.557,-8.312 2.284,-8.285 3.023,-8.128 3.461,-7.974 4.066,-7.666 4.69,-7.225 5.04,-6.926 5.236,-6.753 5.39,-6.626 5.478,-6.565 5.489,-6.563 5.528,-6.626 5.629,-6.791 5.784,-7.044 5.985,-7.372 6.221,-7.76 6.485,-8.193 6.633,-8.435 7.756,-10.281 6.353,-10.974 5.846,-11.223 5.435,-11.419 5.095,-11.573 4.802,-11.693 4.529,-11.79 4.252,-11.873 3.946,-11.953 3.653,-12.022 3.392,-12.076 3.12,-12.117 2.808,-12.147 2.429,-12.168 1.957,-12.183 1.639,-12.189 1.185,-12.194 0.749,-12.192 0.361,-12.183 0.049,-12.17 -0.157,-12.152 -0.169,-12.15 -1.242,-11.918 -2.249,-11.566 -3.19,-11.095 -4.066,-10.504 -4.875,-9.794 -5.617,-8.965 -6.154,-8.228 -6.726,-7.263 -7.189,-6.245 -7.544,-5.164 -7.794,-4.013 -7.941,-2.783 -7.987,-1.534 -7.949,-0.327 -7.83,0.788 -7.625,1.828 -7.33,2.812 -6.943,3.759 -6.897,3.857 -6.387,4.774 -5.761,5.647 -5.037,6.457 -4.232,7.187 -3.364,7.818 -2.555,8.281 -1.738,8.643 -0.919,8.906 -0.066,9.076 0.851,9.16 1.4,9.173
  region: 119 vertices and 1 holes, not listed, extent 23.156,-12.211 38.175,10.161
  region: 125 vertices and 1 holes, not listed, extent 7.723,-12.197 21.918,3.678
  region: 197 vertices and 2 holes, not listed, extent -38.101,-15.02 -9.43,12.564

## KiCad-Logo_30mm_SilkScreen [mm]
F.SilkS:
  drawing of 5 lines, arcs and shapes, not listed

## KiCad-Logo_40mm_Copper [mm]
F.Cu:
  region: -18.076,19.651 -17.392,19.413 -16.756,19.04 -16.187,18.531 -15.708,17.886 -15.493,17.48 -15.306,16.911 -15.216,16.254 -15.226,15.579 -15.337,14.968 -15.641,14.22 -16.081,13.572 -16.635,13.035 -17.282,12.624 -17.998,12.349 -18.761,12.225 -19.549,12.263 -19.938,12.345 -20.695,12.64 -21.367,13.089 -21.938,13.679 -22.393,14.397 -22.431,14.475 -22.564,14.769 -22.647,15.017 -22.693,15.278 -22.711,15.613 -22.714,15.977 -22.709,16.415 -22.686,16.732 -22.634,16.987 -22.541,17.243 -22.426,17.496 -21.998,18.213 -21.47,18.793 -20.864,19.237 -20.201,19.545 -19.501,19.716 -18.786,19.751
  region: 2.917,12.197 3.899,12.09 4.85,11.898 5.809,11.61 6.815,11.218 7.907,10.711 8.103,10.613 8.554,10.39 8.98,10.19 9.338,10.031 9.586,9.933 9.624,9.92 9.989,9.811 8.354,7.432 7.954,6.85 7.588,6.319 7.27,5.856 7.01,5.479 6.822,5.207 6.718,5.057 6.701,5.033 6.632,5.083 6.463,5.232 6.223,5.454 6.091,5.58 5.343,6.175 4.502,6.627 3.778,6.875 3.343,6.953 2.799,7 2.209,7.016 1.638,7 1.148,6.951 0.953,6.914 0.074,6.611 -0.719,6.149 -1.424,5.528 -2.041,4.75 -2.569,3.815 -3.008,2.723 -3.356,1.477 -3.564,0.41 -3.618,-0.061 -3.655,-0.67 -3.675,-1.372 -3.678,-2.125 -3.666,-2.883 -3.637,-3.605 -3.593,-4.245 -3.534,-4.76 -3.521,-4.839 -3.239,-6.12 -2.855,-7.253 -2.366,-8.244 -1.771,-9.098 -1.348,-9.559 -0.588,-10.186 0.245,-10.651 1.138,-10.951 2.076,-11.083 3.045,-11.046 4.031,-10.837 4.614,-10.632 5.422,-10.221 6.253,-9.633 6.719,-9.235 6.981,-9.004 7.187,-8.835 7.304,-8.754 7.318,-8.751 7.37,-8.835 7.506,-9.054 7.713,-9.392 7.979,-9.829 8.295,-10.346 8.647,-10.924 8.843,-11.246 10.342,-13.707 8.471,-14.632 7.795,-14.964 7.247,-15.226 6.794,-15.43 6.402,-15.591 6.039,-15.72 5.67,-15.831 5.262,-15.937 4.871,-16.03 4.523,-16.102 4.159,-16.156 3.744,-16.196 3.239,-16.224 2.609,-16.244 2.185,-16.252 1.579,-16.258 0.999,-16.255 0.481,-16.245 0.066,-16.227 -0.209,-16.202 -0.226,-16.2 -1.656,-15.891 -2.999,-15.421 -4.254,-14.793 -5.421,-14.005 -6.499,-13.058 -7.489,-11.953 -8.206,-10.97 -8.969,-9.684 -9.585,-8.326 -10.059,-6.885 -10.392,-5.35 -10.588,-3.711 -10.65,-2.046 -10.599,-0.435 -10.439,1.051 -10.166,2.437 -9.774,3.749 -9.257,5.012 -9.196,5.142 -8.516,6.365 -7.682,7.529 -6.716,8.609 -5.643,9.582 -4.485,10.424 -3.407,11.041 -2.317,11.524 -1.225,11.875 -0.089,12.101 1.135,12.213 1.866,12.23
  region: 118 vertices and 1 holes, not listed, extent 30.875,-16.282 50.9,13.549
  region: 125 vertices and 1 holes, not listed, extent 10.297,-16.263 29.224,4.904
  region: 197 vertices and 2 holes, not listed, extent -50.801,-20.027 -12.573,16.752

## KiCad-Logo_40mm_SilkScreen [mm]
F.SilkS:
  drawing of 5 lines, arcs and shapes, not listed